# Altium integrated library Microchip Power Management Switching Regulator.IntLib: 304 symbols (part 2 of 9)
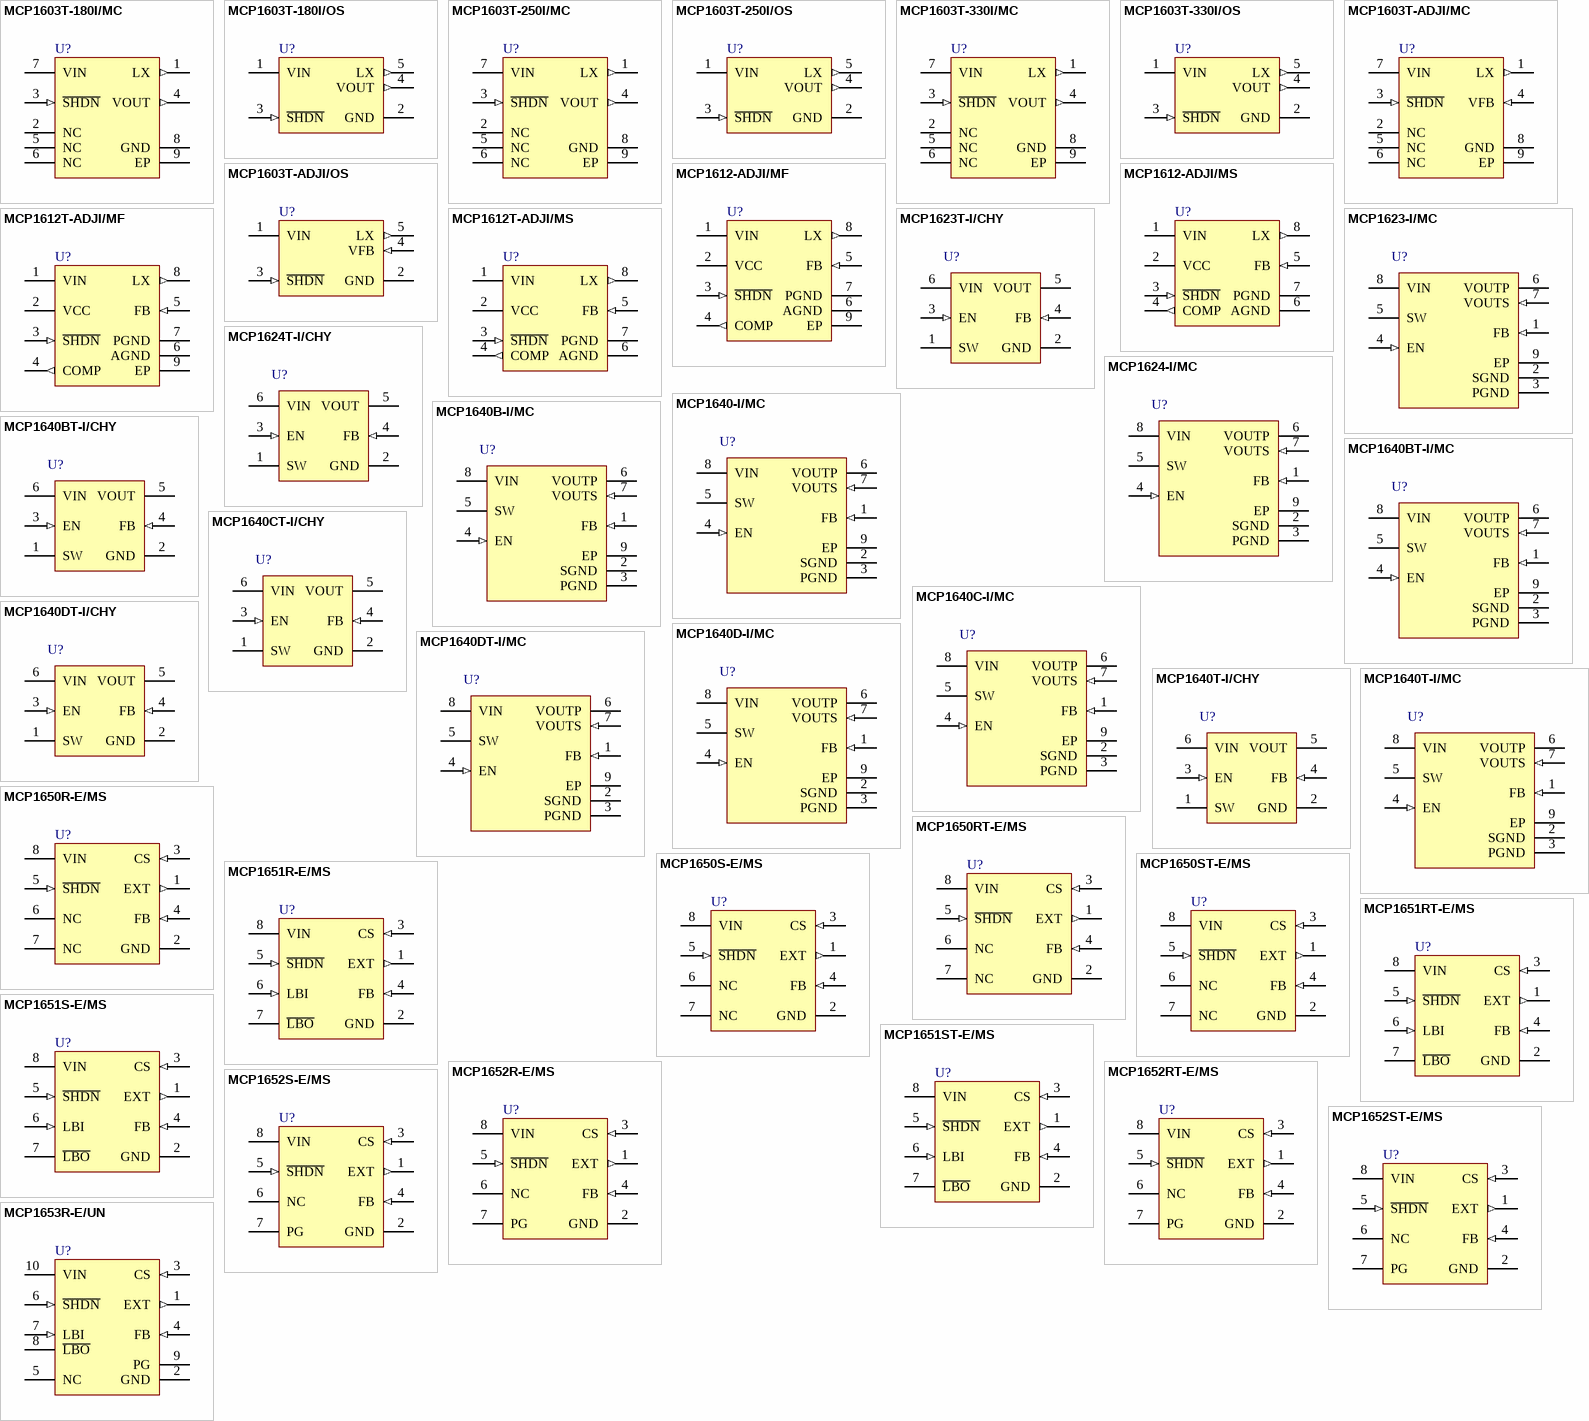
[diagram p8: symbols MCP1603T-180I/MC to MCP1653R-E/UN]

## MCP1603T-180I/OS
designator U?
500mA Synchronous Buck Regulator, 1.8V, 2.0 MHz, 5-Pin TSOT, Industrial Temperature, Tape and Reel; Manufacturer: Microchip; PartNumber: MCP1603T-180I/OS; DatasheetVersion: revA, May-2007; PackageVersion: revBB, Aug-2009; PackageReference: TSOT-OS5; PackageDescription: 5-Lead Plastic Small Outline Transistor (OS) [TSOT]; Supplier 1: Digi-Key; Supplier Part Number 1: MCP1603T-180I/OSTR-ND; Supplier 2: Digi-Key; Supplier Part Number 2: MCP1603T-180I/OSCT-ND; Supplier 3: Digi-Key; Supplier Part Number 3: MCP1603T-180I/OSDKR-ND; Supplier 4: Newark; Supplier Part Number 4: 22K1328; Supplier 5: Mouser; Supplier Part Number 5: 579-MCP1603T-180I/OS; Mounting Technology: Surface Mount; ComponentLink1Description: Manufacturer URL; ComponentLink1URL: http://www.microchip.com/; ComponentLink2Description: Datasheet; ComponentLink2URL: http://ww1.microchip.com/downloads/en/DeviceDoc/22042a.pdf; ComponentLink3Description: Package Specification; ComponentLink3URL: http://www.microchip.com/stellent/groups/techpub_sg/documents/packagingspec/en012702.pdf
footprint TSOT-OS5_N (SOT23, 5-Leads, Body 2.9x1.6mm, Pitch 0.95mm, Lead Span 2.8mm, IPC Medium Density)
footprint TSOT-OS5_L (SOT23, 5-Leads, Body 2.9x1.6mm, Pitch 0.95mm, Lead Span 2.8mm, IPC High Density)
footprint TSOT-OS5_M (SOT23, 5-Leads, Body 2.9x1.6mm, Pitch 0.95mm, Lead Span 2.8mm, IPC Low Density)
pins: 1 VIN (power), 2 GND (power), 3 ~{SHDN} (in), 4 VOUT (out), 5 LX (out)

## MCP1603T-250I/MC
designator U?
500mA Synchronous Buck Regulator, 2.5V, 2.0 MHz, 8-Pin DFN, Industrial Temperature, Tape and Reel; Manufacturer: Microchip; PartNumber: MCP1603T-250I/MC; DatasheetVersion: revA, May-2007; PackageVersion: revBB, Aug-2009; PackageReference: DFN-MC8; PackageDescription: 8-Lead Plastic Dual Flat, No Lead Package (MC) - 2x3x0.9mm Body [DFN]; Supplier 1: Digi-Key; Supplier Part Number 1: MCP1603T-250I/MC-ND; Supplier 2: Mouser; Supplier Part Number 2: 579-MCP1603T-250I/MC; Mounting Technology: Surface Mount; ComponentLink1Description: Manufacturer URL; ComponentLink1URL: http://www.microchip.com/; ComponentLink2Description: Datasheet; ComponentLink2URL: http://ww1.microchip.com/downloads/en/DeviceDoc/22042a.pdf; ComponentLink3Description: Package Specification; ComponentLink3URL: http://www.microchip.com/stellent/groups/techpub_sg/documents/packagingspec/en012702.pdf
footprint DFN-MC8 (SON, 8-Leads, Body 2x3mm, Pitch 0.5mm, Microchip Recommended)
pins: 1 LX (out), 2 NC, 3 ~{SHDN} (in), 4 VOUT (out), 5 NC, 6 NC, 7 VIN (power), 8 GND (power), 9 EP (power)

## MCP1603T-250I/OS
designator U?
500mA Synchronous Buck Regulator, 2.5V, 2.0 MHz, 5-Pin TSOT, Industrial Temperature, Tape and Reel; Manufacturer: Microchip; PartNumber: MCP1603T-250I/OS; DatasheetVersion: revA, May-2007; PackageVersion: revBB, Aug-2009; PackageReference: TSOT-OS5; PackageDescription: 5-Lead Plastic Small Outline Transistor (OS) [TSOT]; Supplier 1: Digi-Key; Supplier Part Number 1: MCP1603T-250I/OSTR-ND; Supplier 2: Digi-Key; Supplier Part Number 2: MCP1603T-250I/OSCT-ND; Supplier 3: Digi-Key; Supplier Part Number 3: MCP1603T-250I/OSDKR-ND; Supplier 4: Farnell; Supplier Part Number 4: 1834886; Supplier 5: Farnell; Supplier Part Number 5: 1834886RL; Supplier 6: Newark; Supplier Part Number 6: 84R5174; Supplier 7: Mouser; Supplier Part Number 7: 579-MCP1603T-250I/OS; Mounting Technology: Surface Mount; ComponentLink1Description: Manufacturer URL; ComponentLink1URL: http://www.microchip.com/; ComponentLink2Description: Datasheet; ComponentLink2URL: http://ww1.microchip.com/downloads/en/DeviceDoc/22042a.pdf; ComponentLink3Description: Package Specification; ComponentLink3URL: http://www.microchip.com/stellent/groups/techpub_sg/documents/packagingspec/en012702.pdf
footprint TSOT-OS5_N (SOT23, 5-Leads, Body 2.9x1.6mm, Pitch 0.95mm, Lead Span 2.8mm, IPC Medium Density)
footprint TSOT-OS5_L (SOT23, 5-Leads, Body 2.9x1.6mm, Pitch 0.95mm, Lead Span 2.8mm, IPC High Density)
footprint TSOT-OS5_M (SOT23, 5-Leads, Body 2.9x1.6mm, Pitch 0.95mm, Lead Span 2.8mm, IPC Low Density)
pins: 1 VIN (power), 2 GND (power), 3 ~{SHDN} (in), 4 VOUT (out), 5 LX (out)

## MCP1603T-330I/MC
designator U?
500mA Synchronous Buck Regulator, 3.3V, 2.0 MHz, 8-Pin DFN, Industrial Temperature, Tape and Reel; Manufacturer: Microchip; PartNumber: MCP1603T-330I/MC; DatasheetVersion: revA, May-2007; PackageVersion: revBB, Aug-2009; PackageReference: DFN-MC8; PackageDescription: 8-Lead Plastic Dual Flat, No Lead Package (MC) - 2x3x0.9mm Body [DFN]; Supplier 1: Digi-Key; Supplier Part Number 1: MCP1603T-330I/MC-ND; Supplier 2: Newark; Supplier Part Number 2: 22K1331; Supplier 3: Mouser; Supplier Part Number 3: 579-MCP1603T-330I/MC; Mounting Technology: Surface Mount; ComponentLink1Description: Manufacturer URL; ComponentLink1URL: http://www.microchip.com/; ComponentLink2Description: Datasheet; ComponentLink2URL: http://ww1.microchip.com/downloads/en/DeviceDoc/22042a.pdf; ComponentLink3Description: Package Specification; ComponentLink3URL: http://www.microchip.com/stellent/groups/techpub_sg/documents/packagingspec/en012702.pdf
footprint DFN-MC8 (SON, 8-Leads, Body 2x3mm, Pitch 0.5mm, Microchip Recommended)
pins: 1 LX (out), 2 NC, 3 ~{SHDN} (in), 4 VOUT (out), 5 NC, 6 NC, 7 VIN (power), 8 GND (power), 9 EP (power)

## MCP1603T-330I/OS
designator U?
500mA Synchronous Buck Regulator, 3.3V, 2.0 MHz, 5-Pin TSOT, Industrial Temperature, Tape and Reel; Manufacturer: Microchip; PartNumber: MCP1603T-330I/OS; DatasheetVersion: revA, May-2007; PackageVersion: revBB, Aug-2009; PackageReference: TSOT-OS5; PackageDescription: 5-Lead Plastic Small Outline Transistor (OS) [TSOT]; Supplier 1: Digi-Key; Supplier Part Number 1: MCP1603T-330I/OSTR-ND; Supplier 2: Digi-Key; Supplier Part Number 2: MCP1603T-330I/OSCT-ND; Supplier 3: Digi-Key; Supplier Part Number 3: MCP1603T-330I/OSDKR-ND; Supplier 4: Farnell; Supplier Part Number 4: 1439373RL; Supplier 5: Farnell; Supplier Part Number 5: 1439373; Supplier 6: Farnell; Supplier Part Number 6: 2124903; Supplier 7: Newark; Supplier Part Number 7: 22K1332; Supplier 8: Mouser; Supplier Part Number 8: 579-MCP1603T-330I/OS; Mounting Technology: Surface Mount; ComponentLink1Description: Manufacturer URL; ComponentLink1URL: http://www.microchip.com/; ComponentLink2Description: Datasheet; ComponentLink2URL: http://ww1.microchip.com/downloads/en/DeviceDoc/22042a.pdf; ComponentLink3Description: Package Specification; ComponentLink3URL: http://www.microchip.com/stellent/groups/techpub_sg/documents/packagingspec/en012702.pdf
footprint TSOT-OS5_N (SOT23, 5-Leads, Body 2.9x1.6mm, Pitch 0.95mm, Lead Span 2.8mm, IPC Medium Density)
footprint TSOT-OS5_L (SOT23, 5-Leads, Body 2.9x1.6mm, Pitch 0.95mm, Lead Span 2.8mm, IPC High Density)
footprint TSOT-OS5_M (SOT23, 5-Leads, Body 2.9x1.6mm, Pitch 0.95mm, Lead Span 2.8mm, IPC Low Density)
pins: 1 VIN (power), 2 GND (power), 3 ~{SHDN} (in), 4 VOUT (out), 5 LX (out)

## MCP1603T-ADJI/MC
designator U?
500mA Synchronous Buck Regulator, Adjustable Output, 2MHz, 8-Pin DFN, Industrial Temperature, Tape and Reel; Manufacturer: Microchip; PartNumber: MCP1603T-ADJI/MC; DatasheetVersion: revA, May-2007; PackageVersion: revBB, Aug-2009; PackageReference: DFN-MC8; PackageDescription: 8-Lead Plastic Dual Flat, No Lead Package (MC) - 2x3x0.9mm Body [DFN]; Mounting Technology: Surface Mount; ComponentLink1Description: Manufacturer URL; ComponentLink1URL: http://www.microchip.com/; ComponentLink2Description: Datasheet; ComponentLink2URL: http://ww1.microchip.com/downloads/en/DeviceDoc/22042a.pdf; ComponentLink3Description: Package Specification; ComponentLink3URL: http://www.microchip.com/stellent/groups/techpub_sg/documents/packagingspec/en012702.pdf
footprint DFN-MC8 (SON, 8-Leads, Body 2x3mm, Pitch 0.5mm, Microchip Recommended)
pins: 1 LX (out), 2 NC, 3 ~{SHDN} (in), 4 VFB (in), 5 NC, 6 NC, 7 VIN (power), 8 GND (power), 9 EP (power)

## MCP1603T-ADJI/OS
designator U?
500mA Synchronous Buck Regulator, Adjustable Output, 2MHz, 5-Pin TSOT, Industrial Temperature, Tape and Reel; Manufacturer: Microchip; PartNumber: MCP1603T-ADJI/OS; DatasheetVersion: revA, May-2007; PackageVersion: revBB, Aug-2009; PackageReference: TSOT-OS5; PackageDescription: 5-Lead Plastic Small Outline Transistor (OS) [TSOT]; Supplier 1: Digi-Key; Supplier Part Number 1: MCP1603T-ADJI/OSTR-ND; Supplier 2: Digi-Key; Supplier Part Number 2: MCP1603T-ADJI/OSCT-ND; Supplier 3: Digi-Key; Supplier Part Number 3: MCP1603T-ADJI/OSDKR-ND; Supplier 4: Newark; Supplier Part Number 4: 22K1320; Supplier 5: Mouser; Supplier Part Number 5: 579-MCP1603T-ADJI/OS; Mounting Technology: Surface Mount; ComponentLink1Description: Manufacturer URL; ComponentLink1URL: http://www.microchip.com/; ComponentLink2Description: Datasheet; ComponentLink2URL: http://ww1.microchip.com/downloads/en/DeviceDoc/22042a.pdf; ComponentLink3Description: Package Specification; ComponentLink3URL: http://www.microchip.com/stellent/groups/techpub_sg/documents/packagingspec/en012702.pdf
footprint TSOT-OS5_N (SOT23, 5-Leads, Body 2.9x1.6mm, Pitch 0.95mm, Lead Span 2.8mm, IPC Medium Density)
footprint TSOT-OS5_L (SOT23, 5-Leads, Body 2.9x1.6mm, Pitch 0.95mm, Lead Span 2.8mm, IPC High Density)
footprint TSOT-OS5_M (SOT23, 5-Leads, Body 2.9x1.6mm, Pitch 0.95mm, Lead Span 2.8mm, IPC Low Density)
pins: 1 VIN (power), 2 GND (power), 3 ~{SHDN} (in), 4 VFB (in), 5 LX (out)

## MCP1612-ADJI/MF
designator U?
Single 1A Synchronous Buck Regulator, 1.4MHz, 8-Pin DFN, Industrial Temperature; Manufacturer: Microchip; PartNumber: MCP1612-ADJI/MF; DatasheetVersion: revB, Sep-2005; PackageVersion: revBB, Aug-2009; PackageReference: DFN-MF8; PackageDescription: 8-Lead Plastic Dual Flat, No Lead Package (MF) - 3x3x0.9mm Body [DFN]; Supplier 1: Digi-Key; Supplier Part Number 1: MCP1612-ADJI/MF-ND; Supplier 2: Farnell; Supplier Part Number 2: 1851929; Supplier 3: Newark; Supplier Part Number 3: 71J5263; Supplier 4: Mouser; Supplier Part Number 4: 579-MCP1612-ADJI/MF; Mounting Technology: Surface Mount; ComponentLink1Description: Manufacturer URL; ComponentLink1URL: http://www.microchip.com/; ComponentLink2Description: Datasheet; ComponentLink2URL: http://ww1.microchip.com/downloads/en/DeviceDoc/21921b.pdf; ComponentLink3Description: Package Specification; ComponentLink3URL: http://www.microchip.com/stellent/groups/techpub_sg/documents/packagingspec/en012702.pdf
footprint DFN-MF8 (SON, 8-Leads, Body 3x3mm, Pitch 0.65mm, Microchip Recommended)
pins: 1 VIN (power), 2 VCC (power), 3 ~{SHDN} (in), 4 COMP (out), 5 FB (in), 6 AGND (power), 7 PGND (power), 8 LX (out), 9 EP (power)

## MCP1612-ADJI/MS
designator U?
Single 1A Synchronous Buck Regulator, 1.4MHz, 8-Pin MSOP, Industrial Temperature; Manufacturer: Microchip; PartNumber: MCP1612-ADJI/MS; DatasheetVersion: revB, Sep-2005; PackageVersion: revBB, Aug-2009; PackageReference: MSOP-MS8; PackageDescription: 8-Lead Plastic Micro Small Outline Package (MS) [MSOP]; Supplier 1: Digi-Key; Supplier Part Number 1: MCP1612-ADJI/MS-ND; Supplier 2: Farnell; Supplier Part Number 2: 8752915; Supplier 3: Newark; Supplier Part Number 3: 18K6597; Supplier 4: Newark; Supplier Part Number 4: 68K5101; Supplier 5: Mouser; Supplier Part Number 5: 579-MCP1612-ADJI/MS; Mounting Technology: Surface Mount; ComponentLink1Description: Manufacturer URL; ComponentLink1URL: http://www.microchip.com/; ComponentLink2Description: Datasheet; ComponentLink2URL: http://ww1.microchip.com/downloads/en/DeviceDoc/21921b.pdf; ComponentLink3Description: Package Specification; ComponentLink3URL: http://www.microchip.com/stellent/groups/techpub_sg/documents/packagingspec/en012702.pdf
footprint MSOP-MS8_N (TSOP, 8-Leads, Body 3x3mm, Pitch 0.65mm, IPC Medium Density)
footprint MSOP-MS8_L (TSOP, 8-Leads, Body 3x3mm, Pitch 0.65mm, IPC High Density)
footprint MSOP-MS8_M (TSOP, 8-Leads, Body 3x3mm, Pitch 0.65mm, IPC Low Density)
pins: 1 VIN (power), 2 VCC (power), 3 ~{SHDN} (in), 4 COMP (out), 5 FB (in), 6 AGND (power), 7 PGND (power), 8 LX (out)

## MCP1612T-ADJI/MF
designator U?
Single 1A Synchronous Buck Regulator, 1.4MHz, 8-Pin DFN, Industrial Temperature, Tape and Reel; Manufacturer: Microchip; PartNumber: MCP1612T-ADJI/MF; DatasheetVersion: revB, Sep-2005; PackageVersion: revBB, Aug-2009; PackageReference: DFN-MF8; PackageDescription: 8-Lead Plastic Dual Flat, No Lead Package (MF) - 3x3x0.9mm Body [DFN]; Supplier 1: Digi-Key; Supplier Part Number 1: MCP1612T-ADJI/MF-ND; Supplier 2: Mouser; Supplier Part Number 2: 579-MCP1612T-ADJI/MF; Mounting Technology: Surface Mount; ComponentLink1Description: Manufacturer URL; ComponentLink1URL: http://www.microchip.com/; ComponentLink2Description: Datasheet; ComponentLink2URL: http://ww1.microchip.com/downloads/en/DeviceDoc/21921b.pdf; ComponentLink3Description: Package Specification; ComponentLink3URL: http://www.microchip.com/stellent/groups/techpub_sg/documents/packagingspec/en012702.pdf
footprint DFN-MF8 (SON, 8-Leads, Body 3x3mm, Pitch 0.65mm, Microchip Recommended)
pins: 1 VIN (power), 2 VCC (power), 3 ~{SHDN} (in), 4 COMP (out), 5 FB (in), 6 AGND (power), 7 PGND (power), 8 LX (out), 9 EP (power)

## MCP1612T-ADJI/MS
designator U?
Single 1A Synchronous Buck Regulator, 1.4MHz, 8-Pin MSOP, Industrial Temperature, Tape and Reel; Manufacturer: Microchip; PartNumber: MCP1612T-ADJI/MS; DatasheetVersion: revB, Sep-2005; PackageVersion: revBB, Aug-2009; PackageReference: MSOP-MS8; PackageDescription: 8-Lead Plastic Micro Small Outline Package (MS) [MSOP]; Supplier 1: Digi-Key; Supplier Part Number 1: MCP1612T-ADJI/MS-ND; Supplier 2: Mouser; Supplier Part Number 2: 579-MCP1612T-ADJI/MS; Mounting Technology: Surface Mount; ComponentLink1Description: Manufacturer URL; ComponentLink1URL: http://www.microchip.com/; ComponentLink2Description: Datasheet; ComponentLink2URL: http://ww1.microchip.com/downloads/en/DeviceDoc/21921b.pdf; ComponentLink3Description: Package Specification; ComponentLink3URL: http://www.microchip.com/stellent/groups/techpub_sg/documents/packagingspec/en012702.pdf
footprint MSOP-MS8_N (TSOP, 8-Leads, Body 3x3mm, Pitch 0.65mm, IPC Medium Density)
footprint MSOP-MS8_L (TSOP, 8-Leads, Body 3x3mm, Pitch 0.65mm, IPC High Density)
footprint MSOP-MS8_M (TSOP, 8-Leads, Body 3x3mm, Pitch 0.65mm, IPC Low Density)
pins: 1 VIN (power), 2 VCC (power), 3 ~{SHDN} (in), 4 COMP (out), 5 FB (in), 6 AGND (power), 7 PGND (power), 8 LX (out)

## MCP1623-I/MC
designator U?
Low-Voltage Input Boost Regulator for PIC® Microcontrollers, 175 mA, Input Voltage 0.65 to 5.5 V, Output Voltage 2.0 to 5.5 V, -40 to 85 degC, 8-pin DFN (MC8), Tube; Manufacturer: Microchip; PartNumber: MCP1623-I/MC; DatasheetVersion: Rev. C; PackageVersion: C04-123C; PackageReference: DFN-MC8; PackageDescription: 8-Lead Plastic Dual Flat, 2 x 3 mm Body, 0.5 mm Pitch; Supplier 1: Digi-Key; Supplier Part Number 1: MCP1623-I/MC-ND; Supplier 2: Farnell; Supplier Part Number 2: 1863916; Supplier 3: Newark; Supplier Part Number 3: 85R1724; Supplier 4: Mouser; Supplier Part Number 4: 579-MCP1623IMC; Mounting Technology: Surface Mount; ComponentLink1Description: Manufacturer URL; ComponentLink1URL: http://www.microchip.com; ComponentLink2Description: Datasheet; ComponentLink2URL: http://ww1.microchip.com/downloads/en/DeviceDoc/41420C.pdf; ComponentLink3Description: Package Specification; ComponentLink3URL: http://www.microchip.com/stellent/groups/techpub_sg/documents/packagingspec/en012702.pdf; ComponentLink4Description: Product URL; ComponentLink4URL: http://www.microchip.com/MCP1623
footprint MCHP-DFN-MC8_V (SON, 8-Leads, Body 3x2mm, Pitch 0.5mm, Thermal Pad 1.45x1.75mm)
pins: 1 FB (in) "Feedback Voltage Pin", 2 SGND (power) "Signal Ground Pin", 3 PGND (power) "Power Ground Pin", 4 EN (in) "Enable Control Input Pin", 5 SW (power) "Switch Node, Boost Inductor Input Pin", 6 VOUTP (power) "Output Voltage Power Pin", 7 VOUTS (in) "Output Voltage Sense Pin", 8 VIN (power) "Input Voltage Pin", 9 EP (power) "Exposed Thermal Pad (EP); must be connected to VSS"

## MCP1623T-I/CHY
designator U?
Low-Voltage Input Boost Regulator for PIC® Microcontrollers, 175 mA, Input Voltage 0.65 to 5.5 V, Output Voltage 2.0 to 5.5 V, -40 to 85 degC, 6-pin SOT-23 (CHY6), Tape and Reel; Manufacturer: Microchip; PartNumber: MCP1623T-I/CHY; DatasheetVersion: Rev. C; PackageVersion: C04-028B; PackageReference: SOT-23-CHY6; PackageDescription: 6-Lead Plastic Small Outline Transistor, 2.9 x 1.55 mm Body, 0.95 mm Pitch; Supplier 1: Digi-Key; Supplier Part Number 1: MCP1623T-I/CHYTR-ND; Supplier 2: Digi-Key; Supplier Part Number 2: MCP1623T-I/CHYCT-ND; Supplier 3: Digi-Key; Supplier Part Number 3: MCP1623T-I/CHYDKR-ND; Supplier 4: Farnell; Supplier Part Number 4: 1863917; Supplier 5: Farnell; Supplier Part Number 5: 1863917RL; Supplier 6: Newark; Supplier Part Number 6: 76R6656; Supplier 7: Newark; Supplier Part Number 7: 31T1322; Supplier 8: Mouser; Supplier Part Number 8: 579-MCP1623T-I/CHY; Mounting Technology: Surface Mount; ComponentLink1Description: Manufacturer URL; ComponentLink1URL: http://www.microchip.com; ComponentLink2Description: Datasheet; ComponentLink2URL: http://ww1.microchip.com/downloads/en/DeviceDoc/41420C.pdf; ComponentLink3Description: Package Specification; ComponentLink3URL: http://www.microchip.com/stellent/groups/techpub_sg/documents/packagingspec/en012702.pdf; ComponentLink4Description: Product URL; ComponentLink4URL: http://www.microchip.com/MCP1623
footprint MCHP-SOT-23-CHY6_N (SOT23, 6-Leads, Body 2.9x1.55mm, Pitch 0.95mm, IPC Medium Density)
footprint MCHP-SOT-23-CHY6_L (SOT23, 6-Leads, Body 2.9x1.55mm, Pitch 0.95mm, IPC High Density)
footprint MCHP-SOT-23-CHY6_M (SOT23, 6-Leads, Body 2.9x1.55mm, Pitch 0.95mm, IPC Low Density)
pins: 1 SW (power) "Switch Node, Boost Inductor Input Pin", 2 GND (power) "Ground Pin", 3 EN (in) "Enable Control Input Pin", 4 FB (in) "Feedback Voltage Pin", 5 VOUT (power) "Output Voltage Pin", 6 VIN (power) "Input Voltage Pin"

## MCP1624-I/MC
designator U?
Low-Voltage Input Boost Regulator for PIC® Microcontrollers, 175 mA, Input Voltage 0.65 to 5.5 V, Output Voltage 2.0 to 5.5 V, -40 to 85 degC, 8-pin DFN (MC8), Tube; Manufacturer: Microchip; PartNumber: MCP1624-I/MC; DatasheetVersion: Rev. C; PackageVersion: C04-123C; PackageReference: DFN-MC8; PackageDescription: 8-Lead Plastic Dual Flat, 2 x 3 mm Body, 0.5 mm Pitch; Supplier 1: Digi-Key; Supplier Part Number 1: MCP1624-I/MC-ND; Supplier 2: Farnell; Supplier Part Number 2: 1863918; Supplier 3: Newark; Supplier Part Number 3: 85R1726; Supplier 4: Mouser; Supplier Part Number 4: 579-MCP1624IMC; Mounting Technology: Surface Mount; ComponentLink1Description: Manufacturer URL; ComponentLink1URL: http://www.microchip.com; ComponentLink2Description: Datasheet; ComponentLink2URL: http://ww1.microchip.com/downloads/en/DeviceDoc/41420C.pdf; ComponentLink3Description: Package Specification; ComponentLink3URL: http://www.microchip.com/stellent/groups/techpub_sg/documents/packagingspec/en012702.pdf; ComponentLink4Description: Product URL; ComponentLink4URL: http://www.microchip.com/MCP1624
footprint MCHP-DFN-MC8_V (SON, 8-Leads, Body 3x2mm, Pitch 0.5mm, Thermal Pad 1.45x1.75mm)
pins: 1 FB (in) "Feedback Voltage Pin", 2 SGND (power) "Signal Ground Pin", 3 PGND (power) "Power Ground Pin", 4 EN (in) "Enable Control Input Pin", 5 SW (power) "Switch Node, Boost Inductor Input Pin", 6 VOUTP (power) "Output Voltage Power Pin", 7 VOUTS (in) "Output Voltage Sense Pin", 8 VIN (power) "Input Voltage Pin", 9 EP (power) "Exposed Thermal Pad (EP); must be connected to VSS"

## MCP1624T-I/CHY
designator U?
Low-Voltage Input Boost Regulator for PIC® Microcontrollers, 175 mA, Input Voltage 0.65 to 5.5 V, Output Voltage 2.0 to 5.5 V, -40 to 85 degC, 6-pin SOT-23 (CHY6), Tape and Reel; Manufacturer: Microchip; PartNumber: MCP1624T-I/CHY; DatasheetVersion: Rev. C; PackageVersion: C04-028B; PackageReference: SOT-23-CHY6; PackageDescription: 6-Lead Plastic Small Outline Transistor, 2.9 x 1.55 mm Body, 0.95 mm Pitch; Supplier 1: Digi-Key; Supplier Part Number 1: MCP1624T-I/CHYTR-ND; Supplier 2: Digi-Key; Supplier Part Number 2: MCP1624T-I/CHYCT-ND; Supplier 3: Digi-Key; Supplier Part Number 3: MCP1624T-I/CHYDKR-ND; Supplier 4: Farnell; Supplier Part Number 4: 1825048RL; Supplier 5: Farnell; Supplier Part Number 5: 1825048; Supplier 6: Newark; Supplier Part Number 6: 14T4084; Supplier 7: Newark; Supplier Part Number 7: 73R8371; Supplier 8: Mouser; Supplier Part Number 8: 579-MCP1624T-I/CHY; Mounting Technology: Surface Mount; ComponentLink1Description: Manufacturer URL; ComponentLink1URL: http://www.microchip.com; ComponentLink2Description: Datasheet; ComponentLink2URL: http://ww1.microchip.com/downloads/en/DeviceDoc/41420C.pdf; ComponentLink3Description: Package Specification; ComponentLink3URL: http://www.microchip.com/stellent/groups/techpub_sg/documents/packagingspec/en012702.pdf; ComponentLink4Description: Product URL; ComponentLink4URL: http://www.microchip.com/MCP1624
footprint MCHP-SOT-23-CHY6_N (SOT23, 6-Leads, Body 2.9x1.55mm, Pitch 0.95mm, IPC Medium Density)
footprint MCHP-SOT-23-CHY6_L (SOT23, 6-Leads, Body 2.9x1.55mm, Pitch 0.95mm, IPC High Density)
footprint MCHP-SOT-23-CHY6_M (SOT23, 6-Leads, Body 2.9x1.55mm, Pitch 0.95mm, IPC Low Density)
pins: 1 SW (power) "Switch Node, Boost Inductor Input Pin", 2 GND (power) "Ground Pin", 3 EN (in) "Enable Control Input Pin", 4 FB (in) "Feedback Voltage Pin", 5 VOUT (power) "Output Voltage Pin", 6 VIN (power) "Input Voltage Pin"

## MCP1640-I/MC
designator U?
Start-up Synchronous Boost Regulator with True Output Disconnect or Input / Output Bypass Option, 350 mA, Input Voltage 0.65 to 5.5 V, Output Voltage 2.0 to 5.5 V, -40 to 85 degC, 8-pin DFN (MC8), Tube; Manufacturer: Microchip; PartNumber: MCP1640-I/MC; DatasheetVersion: Rev. B; PackageVersion: C04-123C; PackageReference: DFN-MC8; PackageDescription: 8-Lead Plastic Dual Flat, 2 x 3 mm Body, 0.5 mm Pitch; Supplier 1: Digi-Key; Supplier Part Number 1: MCP1640-I/MC-ND; Supplier 2: Farnell; Supplier Part Number 2: 1834887; Supplier 3: Newark; Supplier Part Number 3: 52R9885; Supplier 4: Mouser; Supplier Part Number 4: 579-MCP1640I/MC; Mounting Technology: Surface Mount; ComponentLink1Description: Manufacturer URL; ComponentLink1URL: http://www.microchip.com; ComponentLink2Description: Datasheet; ComponentLink2URL: http://ww1.microchip.com/downloads/en/DeviceDoc/22234B.pdf; ComponentLink3Description: Package Specification; ComponentLink3URL: http://www.microchip.com/stellent/groups/techpub_sg/documents/packagingspec/en012702.pdf; ComponentLink4Description: Product URL; ComponentLink4URL: http://www.microchip.com/MCP1640
footprint MCHP-DFN-MC8_V (SON, 8-Leads, Body 3x2mm, Pitch 0.5mm, Thermal Pad 1.45x1.75mm)
pins: 1 FB (in) "Feedback Voltage Pin", 2 SGND (power) "Signal Ground Pin", 3 PGND (power) "Power Ground Pin", 4 EN (in) "Enable Control Input Pin", 5 SW (power) "Switch Node, Boost Inductor Input Pin", 6 VOUTP (power) "Output Voltage Power Pin", 7 VOUTS (in) "Output Voltage Sense Pin", 8 VIN (power) "Input Voltage Pin", 9 EP (power) "Exposed Thermal Pad (EP); must be connected to VSS"

## MCP1640B-I/MC
designator U?
Start-up Synchronous Boost Regulator with True Output Disconnect or Input / Output Bypass Option, 350 mA, Input Voltage 0.65 to 5.5 V, Output Voltage 2.0 to 5.5 V, -40 to 85 degC, 8-pin DFN (MC8), Tube; Manufacturer: Microchip; PartNumber: MCP1640B-I/MC; DatasheetVersion: Rev. B; PackageVersion: C04-123C; PackageReference: DFN-MC8; PackageDescription: 8-Lead Plastic Dual Flat, 2 x 3 mm Body, 0.5 mm Pitch; Supplier 1: Digi-Key; Supplier Part Number 1: MCP1640B-I/MC-ND; Supplier 2: Farnell; Supplier Part Number 2: 1834888; Supplier 3: Newark; Supplier Part Number 3: 24R6819; Supplier 4: Mouser; Supplier Part Number 4: 579-MCP1640B-I/MC; Mounting Technology: Surface Mount; ComponentLink1Description: Manufacturer URL; ComponentLink1URL: http://www.microchip.com; ComponentLink2Description: Datasheet; ComponentLink2URL: http://ww1.microchip.com/downloads/en/DeviceDoc/22234B.pdf; ComponentLink3Description: Package Specification; ComponentLink3URL: http://www.microchip.com/stellent/groups/techpub_sg/documents/packagingspec/en012702.pdf; ComponentLink4Description: Product URL; ComponentLink4URL: http://www.microchip.com/MCP1640
footprint MCHP-DFN-MC8_V (SON, 8-Leads, Body 3x2mm, Pitch 0.5mm, Thermal Pad 1.45x1.75mm)
pins: 1 FB (in) "Feedback Voltage Pin", 2 SGND (power) "Signal Ground Pin", 3 PGND (power) "Power Ground Pin", 4 EN (in) "Enable Control Input Pin", 5 SW (power) "Switch Node, Boost Inductor Input Pin", 6 VOUTP (power) "Output Voltage Power Pin", 7 VOUTS (in) "Output Voltage Sense Pin", 8 VIN (power) "Input Voltage Pin", 9 EP (power) "Exposed Thermal Pad (EP); must be connected to VSS"

## MCP1640BT-I/CHY
designator U?
Start-up Synchronous Boost Regulator with True Output Disconnect or Input / Output Bypass Option, 350 mA, Input Voltage 0.65 to 5.5 V, Output Voltage 2.0 to 5.5 V, -40 to 85 degC, 6-pin SOT-23 (CHY6), Tape and Reel; Manufacturer: Microchip; PartNumber: MCP1640BT-I/CHY; DatasheetVersion: Rev. B; PackageVersion: C04-028B; PackageReference: SOT-23-CHY6; PackageDescription: 6-Lead Plastic Small Outline Transistor, 2.9 x 1.55 mm Body, 0.95 mm Pitch; Supplier 1: Digi-Key; Supplier Part Number 1: MCP1640BT-I/CHYTR-ND; Supplier 2: Digi-Key; Supplier Part Number 2: MCP1640BT-I/CHYCT-ND; Supplier 3: Digi-Key; Supplier Part Number 3: MCP1640BT-I/CHYDKR-ND; Supplier 4: Farnell; Supplier Part Number 4: 1800207; Supplier 5: Newark; Supplier Part Number 5: 73R3625; Supplier 6: Newark; Supplier Part Number 6: 24R6820; Supplier 7: Mouser; Supplier Part Number 7: 579-MCP1640BT-I/CHY; Mounting Technology: Surface Mount; ComponentLink1Description: Manufacturer URL; ComponentLink1URL: http://www.microchip.com; ComponentLink2Description: Datasheet; ComponentLink2URL: http://ww1.microchip.com/downloads/en/DeviceDoc/22234B.pdf; ComponentLink3Description: Package Specification; ComponentLink3URL: http://www.microchip.com/stellent/groups/techpub_sg/documents/packagingspec/en012702.pdf; ComponentLink4Description: Product URL; ComponentLink4URL: http://www.microchip.com/MCP1640
footprint MCHP-SOT-23-CHY6_N (SOT23, 6-Leads, Body 2.9x1.55mm, Pitch 0.95mm, IPC Medium Density)
footprint MCHP-SOT-23-CHY6_L (SOT23, 6-Leads, Body 2.9x1.55mm, Pitch 0.95mm, IPC High Density)
footprint MCHP-SOT-23-CHY6_M (SOT23, 6-Leads, Body 2.9x1.55mm, Pitch 0.95mm, IPC Low Density)
pins: 1 SW (power) "Switch Node, Boost Inductor Input Pin", 2 GND (power) "Ground Pin", 3 EN (in) "Enable Control Input Pin", 4 FB (in) "Feedback Voltage Pin", 5 VOUT (power) "Output Voltage Pin", 6 VIN (power) "Input Voltage Pin"

## MCP1640BT-I/MC
designator U?
Start-up Synchronous Boost Regulator with True Output Disconnect or Input / Output Bypass Option, 350 mA, Input Voltage 0.65 to 5.5 V, Output Voltage 2.0 to 5.5 V, -40 to 85 degC, 8-pin DFN (MC8), Tape and Reel; Manufacturer: Microchip; PartNumber: MCP1640BT-I/MC; DatasheetVersion: Rev. B; PackageVersion: C04-123C; PackageReference: DFN-MC8; PackageDescription: 8-Lead Plastic Dual Flat, 2 x 3 mm Body, 0.5 mm Pitch; Supplier 1: Digi-Key; Supplier Part Number 1: MCP1640BT-I/MC-ND; Supplier 2: Mouser; Supplier Part Number 2: 579-MCP1640BT-I/MC; Mounting Technology: Surface Mount; ComponentLink1Description: Manufacturer URL; ComponentLink1URL: http://www.microchip.com; ComponentLink2Description: Datasheet; ComponentLink2URL: http://ww1.microchip.com/downloads/en/DeviceDoc/22234B.pdf; ComponentLink3Description: Package Specification; ComponentLink3URL: http://www.microchip.com/stellent/groups/techpub_sg/documents/packagingspec/en012702.pdf; ComponentLink4Description: Product URL; ComponentLink4URL: http://www.microchip.com/MCP1640
footprint MCHP-DFN-MC8_V (SON, 8-Leads, Body 3x2mm, Pitch 0.5mm, Thermal Pad 1.45x1.75mm)
pins: 1 FB (in) "Feedback Voltage Pin", 2 SGND (power) "Signal Ground Pin", 3 PGND (power) "Power Ground Pin", 4 EN (in) "Enable Control Input Pin", 5 SW (power) "Switch Node, Boost Inductor Input Pin", 6 VOUTP (power) "Output Voltage Power Pin", 7 VOUTS (in) "Output Voltage Sense Pin", 8 VIN (power) "Input Voltage Pin", 9 EP (power) "Exposed Thermal Pad (EP); must be connected to VSS"

## MCP1640C-I/MC
designator U?
Start-up Synchronous Boost Regulator with True Output Disconnect or Input / Output Bypass Option, 350 mA, Input Voltage 0.65 to 5.5 V, Output Voltage 2.0 to 5.5 V, -40 to 85 degC, 8-pin DFN (MC8), Tube; Manufacturer: Microchip; PartNumber: MCP1640C-I/MC; DatasheetVersion: Rev. B; PackageVersion: C04-123C; PackageReference: DFN-MC8; PackageDescription: 8-Lead Plastic Dual Flat, 2 x 3 mm Body, 0.5 mm Pitch; Supplier 1: Digi-Key; Supplier Part Number 1: MCP1640C-I/MC-ND; Supplier 2: Farnell; Supplier Part Number 2: 1840936; Supplier 3: Newark; Supplier Part Number 3: 24R6822; Supplier 4: Mouser; Supplier Part Number 4: 579-MCP1640C-I/MC; Mounting Technology: Surface Mount; ComponentLink1Description: Manufacturer URL; ComponentLink1URL: http://www.microchip.com; ComponentLink2Description: Datasheet; ComponentLink2URL: http://ww1.microchip.com/downloads/en/DeviceDoc/22234B.pdf; ComponentLink3Description: Package Specification; ComponentLink3URL: http://www.microchip.com/stellent/groups/techpub_sg/documents/packagingspec/en012702.pdf; ComponentLink4Description: Product URL; ComponentLink4URL: http://www.microchip.com/MCP1640
footprint MCHP-DFN-MC8_V (SON, 8-Leads, Body 3x2mm, Pitch 0.5mm, Thermal Pad 1.45x1.75mm)
pins: 1 FB (in) "Feedback Voltage Pin", 2 SGND (power) "Signal Ground Pin", 3 PGND (power) "Power Ground Pin", 4 EN (in) "Enable Control Input Pin", 5 SW (power) "Switch Node, Boost Inductor Input Pin", 6 VOUTP (power) "Output Voltage Power Pin", 7 VOUTS (in) "Output Voltage Sense Pin", 8 VIN (power) "Input Voltage Pin", 9 EP (power) "Exposed Thermal Pad (EP); must be connected to VSS"

## MCP1640CT-I/CHY
designator U?
Start-up Synchronous Boost Regulator with True Output Disconnect or Input / Output Bypass Option, 350 mA, Input Voltage 0.65 to 5.5 V, Output Voltage 2.0 to 5.5 V, -40 to 85 degC, 6-pin SOT-23 (CHY6), Tape and Reel; Manufacturer: Microchip; PartNumber: MCP1640CT-I/CHY; DatasheetVersion: Rev. B; PackageVersion: C04-028B; PackageReference: SOT-23-CHY6; PackageDescription: 6-Lead Plastic Small Outline Transistor, 2.9 x 1.55 mm Body, 0.95 mm Pitch; Supplier 1: Digi-Key; Supplier Part Number 1: MCP1640CT-I/CHYTR-ND; Supplier 2: Digi-Key; Supplier Part Number 2: MCP1640CT-I/CHYCT-ND; Supplier 3: Digi-Key; Supplier Part Number 3: MCP1640CT-I/CHYDKR-ND; Supplier 4: Farnell; Supplier Part Number 4: 1800208; Supplier 5: Newark; Supplier Part Number 5: 73R3626; Supplier 6: Mouser; Supplier Part Number 6: 579-MCP1640CT-I/CHY; Mounting Technology: Surface Mount; ComponentLink1Description: Manufacturer URL; ComponentLink1URL: http://www.microchip.com; ComponentLink2Description: Datasheet; ComponentLink2URL: http://ww1.microchip.com/downloads/en/DeviceDoc/22234B.pdf; ComponentLink3Description: Package Specification; ComponentLink3URL: http://www.microchip.com/stellent/groups/techpub_sg/documents/packagingspec/en012702.pdf; ComponentLink4Description: Product URL; ComponentLink4URL: http://www.microchip.com/MCP1640
footprint MCHP-SOT-23-CHY6_N (SOT23, 6-Leads, Body 2.9x1.55mm, Pitch 0.95mm, IPC Medium Density)
footprint MCHP-SOT-23-CHY6_L (SOT23, 6-Leads, Body 2.9x1.55mm, Pitch 0.95mm, IPC High Density)
footprint MCHP-SOT-23-CHY6_M (SOT23, 6-Leads, Body 2.9x1.55mm, Pitch 0.95mm, IPC Low Density)
pins: 1 SW (power) "Switch Node, Boost Inductor Input Pin", 2 GND (power) "Ground Pin", 3 EN (in) "Enable Control Input Pin", 4 FB (in) "Feedback Voltage Pin", 5 VOUT (power) "Output Voltage Pin", 6 VIN (power) "Input Voltage Pin"

## MCP1640D-I/MC
designator U?
Start-up Synchronous Boost Regulator with True Output Disconnect or Input / Output Bypass Option, 350 mA, Input Voltage 0.65 to 5.5 V, Output Voltage 2.0 to 5.5 V, -40 to 85 degC, 8-pin DFN (MC8), Tube; Manufacturer: Microchip; PartNumber: MCP1640D-I/MC; DatasheetVersion: Rev. B; PackageVersion: C04-123C; PackageReference: DFN-MC8; PackageDescription: 8-Lead Plastic Dual Flat, 2 x 3 mm Body, 0.5 mm Pitch; Supplier 1: Digi-Key; Supplier Part Number 1: MCP1640D-I/MC-ND; Supplier 2: Farnell; Supplier Part Number 2: 1834889; Supplier 3: Newark; Supplier Part Number 3: 24R6825; Supplier 4: Mouser; Supplier Part Number 4: 579-MCP1640D-I/MC; Mounting Technology: Surface Mount; ComponentLink1Description: Manufacturer URL; ComponentLink1URL: http://www.microchip.com; ComponentLink2Description: Datasheet; ComponentLink2URL: http://ww1.microchip.com/downloads/en/DeviceDoc/22234B.pdf; ComponentLink3Description: Package Specification; ComponentLink3URL: http://www.microchip.com/stellent/groups/techpub_sg/documents/packagingspec/en012702.pdf; ComponentLink4Description: Product URL; ComponentLink4URL: http://www.microchip.com/MCP1640
footprint MCHP-DFN-MC8_V (SON, 8-Leads, Body 3x2mm, Pitch 0.5mm, Thermal Pad 1.45x1.75mm)
pins: 1 FB (in) "Feedback Voltage Pin", 2 SGND (power) "Signal Ground Pin", 3 PGND (power) "Power Ground Pin", 4 EN (in) "Enable Control Input Pin", 5 SW (power) "Switch Node, Boost Inductor Input Pin", 6 VOUTP (power) "Output Voltage Power Pin", 7 VOUTS (in) "Output Voltage Sense Pin", 8 VIN (power) "Input Voltage Pin", 9 EP (power) "Exposed Thermal Pad (EP); must be connected to VSS"

## MCP1640DT-I/CHY
designator U?
Start-up Synchronous Boost Regulator with True Output Disconnect or Input / Output Bypass Option, 350 mA, Input Voltage 0.65 to 5.5 V, Output Voltage 2.0 to 5.5 V, -40 to 85 degC, 6-pin SOT-23 (CHY6), Tape and Reel; Manufacturer: Microchip; PartNumber: MCP1640DT-I/CHY; DatasheetVersion: Rev. B; PackageVersion: C04-028B; PackageReference: SOT-23-CHY6; PackageDescription: 6-Lead Plastic Small Outline Transistor, 2.9 x 1.55 mm Body, 0.95 mm Pitch; Supplier 1: Digi-Key; Supplier Part Number 1: MCP1640DT-I/CHYTR-ND; Supplier 2: Digi-Key; Supplier Part Number 2: MCP1640DT-I/CHYCT-ND; Supplier 3: Digi-Key; Supplier Part Number 3: MCP1640DT-I/CHYDKR-ND; Supplier 4: Farnell; Supplier Part Number 4: 1800209; Supplier 5: Newark; Supplier Part Number 5: 73R3627; Supplier 6: Mouser; Supplier Part Number 6: 579-MCP1640DT-I/CHY; Mounting Technology: Surface Mount; ComponentLink1Description: Manufacturer URL; ComponentLink1URL: http://www.microchip.com; ComponentLink2Description: Datasheet; ComponentLink2URL: http://ww1.microchip.com/downloads/en/DeviceDoc/22234B.pdf; ComponentLink3Description: Package Specification; ComponentLink3URL: http://www.microchip.com/stellent/groups/techpub_sg/documents/packagingspec/en012702.pdf; ComponentLink4Description: Product URL; ComponentLink4URL: http://www.microchip.com/MCP1640
footprint MCHP-SOT-23-CHY6_N (SOT23, 6-Leads, Body 2.9x1.55mm, Pitch 0.95mm, IPC Medium Density)
footprint MCHP-SOT-23-CHY6_L (SOT23, 6-Leads, Body 2.9x1.55mm, Pitch 0.95mm, IPC High Density)
footprint MCHP-SOT-23-CHY6_M (SOT23, 6-Leads, Body 2.9x1.55mm, Pitch 0.95mm, IPC Low Density)
pins: 1 SW (power) "Switch Node, Boost Inductor Input Pin", 2 GND (power) "Ground Pin", 3 EN (in) "Enable Control Input Pin", 4 FB (in) "Feedback Voltage Pin", 5 VOUT (power) "Output Voltage Pin", 6 VIN (power) "Input Voltage Pin"

## MCP1640DT-I/MC
designator U?
Start-up Synchronous Boost Regulator with True Output Disconnect or Input / Output Bypass Option, 350 mA, Input Voltage 0.65 to 5.5 V, Output Voltage 2.0 to 5.5 V, -40 to 85 degC, 8-pin DFN (MC8), Tape and Reel; Manufacturer: Microchip; PartNumber: MCP1640DT-I/MC; DatasheetVersion: Rev. B; PackageVersion: C04-123C; PackageReference: DFN-MC8; PackageDescription: 8-Lead Plastic Dual Flat, 2 x 3 mm Body, 0.5 mm Pitch; Supplier 1: Digi-Key; Supplier Part Number 1: MCP1640DT-I/MC-ND; Supplier 2: Mouser; Supplier Part Number 2: 579-MCP1640DT-I/MC; Mounting Technology: Surface Mount; ComponentLink1Description: Manufacturer URL; ComponentLink1URL: http://www.microchip.com; ComponentLink2Description: Datasheet; ComponentLink2URL: http://ww1.microchip.com/downloads/en/DeviceDoc/22234B.pdf; ComponentLink3Description: Package Specification; ComponentLink3URL: http://www.microchip.com/stellent/groups/techpub_sg/documents/packagingspec/en012702.pdf; ComponentLink4Description: Product URL; ComponentLink4URL: http://www.microchip.com/MCP1640
footprint MCHP-DFN-MC8_V (SON, 8-Leads, Body 3x2mm, Pitch 0.5mm, Thermal Pad 1.45x1.75mm)
pins: 1 FB (in) "Feedback Voltage Pin", 2 SGND (power) "Signal Ground Pin", 3 PGND (power) "Power Ground Pin", 4 EN (in) "Enable Control Input Pin", 5 SW (power) "Switch Node, Boost Inductor Input Pin", 6 VOUTP (power) "Output Voltage Power Pin", 7 VOUTS (in) "Output Voltage Sense Pin", 8 VIN (power) "Input Voltage Pin", 9 EP (power) "Exposed Thermal Pad (EP); must be connected to VSS"

## MCP1640T-I/CHY
designator U?
Start-up Synchronous Boost Regulator with True Output Disconnect or Input / Output Bypass Option, 350 mA, Input Voltage 0.65 to 5.5 V, Output Voltage 2.0 to 5.5 V, -40 to 85 degC, 6-pin SOT-23 (CHY6), Tape and Reel; Manufacturer: Microchip; PartNumber: MCP1640T-I/CHY; DatasheetVersion: Rev. B; PackageVersion: C04-028B; PackageReference: SOT-23-CHY6; PackageDescription: 6-Lead Plastic Small Outline Transistor, 2.9 x 1.55 mm Body, 0.95 mm Pitch; Supplier 1: Digi-Key; Supplier Part Number 1: MCP1640T-I/CHYTR-ND; Supplier 2: Digi-Key; Supplier Part Number 2: MCP1640T-I/CHYCT-ND; Supplier 3: Digi-Key; Supplier Part Number 3: MCP1640T-I/CHYDKR-ND; Supplier 4: Farnell; Supplier Part Number 4: 1800205; Supplier 5: Newark; Supplier Part Number 5: 73R3628; Supplier 6: Mouser; Supplier Part Number 6: 579-MCP1640TI/CHY; Mounting Technology: Surface Mount; ComponentLink1Description: Manufacturer URL; ComponentLink1URL: http://www.microchip.com; ComponentLink2Description: Datasheet; ComponentLink2URL: http://ww1.microchip.com/downloads/en/DeviceDoc/22234B.pdf; ComponentLink3Description: Package Specification; ComponentLink3URL: http://www.microchip.com/stellent/groups/techpub_sg/documents/packagingspec/en012702.pdf; ComponentLink4Description: Product URL; ComponentLink4URL: http://www.microchip.com/MCP1640
footprint MCHP-SOT-23-CHY6_N (SOT23, 6-Leads, Body 2.9x1.55mm, Pitch 0.95mm, IPC Medium Density)
footprint MCHP-SOT-23-CHY6_L (SOT23, 6-Leads, Body 2.9x1.55mm, Pitch 0.95mm, IPC High Density)
footprint MCHP-SOT-23-CHY6_M (SOT23, 6-Leads, Body 2.9x1.55mm, Pitch 0.95mm, IPC Low Density)
pins: 1 SW (power) "Switch Node, Boost Inductor Input Pin", 2 GND (power) "Ground Pin", 3 EN (in) "Enable Control Input Pin", 4 FB (in) "Feedback Voltage Pin", 5 VOUT (power) "Output Voltage Pin", 6 VIN (power) "Input Voltage Pin"

## MCP1640T-I/MC
designator U?
Start-up Synchronous Boost Regulator with True Output Disconnect or Input / Output Bypass Option, 350 mA, Input Voltage 0.65 to 5.5 V, Output Voltage 2.0 to 5.5 V, -40 to 85 degC, 8-pin DFN (MC8), Tape and Reel; Manufacturer: Microchip; PartNumber: MCP1640T-I/MC; DatasheetVersion: Rev. B; PackageVersion: C04-123C; PackageReference: DFN-MC8; PackageDescription: 8-Lead Plastic Dual Flat, 2 x 3 mm Body, 0.5 mm Pitch; Supplier 1: Digi-Key; Supplier Part Number 1: MCP1640T-I/MC-ND; Supplier 2: Mouser; Supplier Part Number 2: 579-MCP1640TI/MC; Mounting Technology: Surface Mount; ComponentLink1Description: Manufacturer URL; ComponentLink1URL: http://www.microchip.com; ComponentLink2Description: Datasheet; ComponentLink2URL: http://ww1.microchip.com/downloads/en/DeviceDoc/22234B.pdf; ComponentLink3Description: Package Specification; ComponentLink3URL: http://www.microchip.com/stellent/groups/techpub_sg/documents/packagingspec/en012702.pdf; ComponentLink4Description: Product URL; ComponentLink4URL: http://www.microchip.com/MCP1640
footprint MCHP-DFN-MC8_V (SON, 8-Leads, Body 3x2mm, Pitch 0.5mm, Thermal Pad 1.45x1.75mm)
pins: 1 FB (in) "Feedback Voltage Pin", 2 SGND (power) "Signal Ground Pin", 3 PGND (power) "Power Ground Pin", 4 EN (in) "Enable Control Input Pin", 5 SW (power) "Switch Node, Boost Inductor Input Pin", 6 VOUTP (power) "Output Voltage Power Pin", 7 VOUTS (in) "Output Voltage Sense Pin", 8 VIN (power) "Input Voltage Pin", 9 EP (power) "Exposed Thermal Pad (EP); must be connected to VSS"

## MCP1650R-E/MS
designator U?
750 kHz Boost Controller, 2.0V, 8-Pin MSOP, Extended Temperature; Manufacturer: Microchip; PartNumber: MCP1650R-E/MS; DatasheetVersion: revA, Mar-2004; PackageVersion: revBB, Aug-2009; PackageReference: MSOP-MS8; PackageDescription: 8-Lead Plastic Micro Small Outline Package (MS) [MSOP]; Supplier 1: Digi-Key; Supplier Part Number 1: MCP1650R-E/MS-ND; Supplier 2: Farnell; Supplier Part Number 2: 1439375; Supplier 3: Newark; Supplier Part Number 3: 96K3706; Supplier 4: Mouser; Supplier Part Number 4: 579-MCP1650R-E/MS; Mounting Technology: Surface Mount; ComponentLink1Description: Manufacturer URL; ComponentLink1URL: http://www.microchip.com/; ComponentLink2Description: Datasheet; ComponentLink2URL: http://ww1.microchip.com/downloads/en/DeviceDoc/21876a.pdf; ComponentLink3Description: Package Specification; ComponentLink3URL: http://www.microchip.com/stellent/groups/techpub_sg/documents/packagingspec/en012702.pdf
footprint MSOP-MS8_N (TSOP, 8-Leads, Body 3x3mm, Pitch 0.65mm, IPC Medium Density)
footprint MSOP-MS8_L (TSOP, 8-Leads, Body 3x3mm, Pitch 0.65mm, IPC High Density)
footprint MSOP-MS8_M (TSOP, 8-Leads, Body 3x3mm, Pitch 0.65mm, IPC Low Density)
pins: 1 EXT (out), 2 GND (power), 3 CS (in), 4 FB (in), 5 ~{SHDN} (in), 6 NC, 7 NC, 8 VIN (power)

## MCP1650RT-E/MS
designator U?
750 kHz Boost Controller, 2.0V, 8-Pin MSOP, Extended Temperature, Tape and Reel; Manufacturer: Microchip; PartNumber: MCP1650RT-E/MS; DatasheetVersion: revA, Mar-2004; PackageVersion: revBB, Aug-2009; PackageReference: MSOP-MS8; PackageDescription: 8-Lead Plastic Micro Small Outline Package (MS) [MSOP]; Supplier 1: Digi-Key; Supplier Part Number 1: MCP1650RT-E/MS-ND; Supplier 2: Mouser; Supplier Part Number 2: 579-MCP1650RT-E/MS; Mounting Technology: Surface Mount; ComponentLink1Description: Manufacturer URL; ComponentLink1URL: http://www.microchip.com/; ComponentLink2Description: Datasheet; ComponentLink2URL: http://ww1.microchip.com/downloads/en/DeviceDoc/21876a.pdf; ComponentLink3Description: Package Specification; ComponentLink3URL: http://www.microchip.com/stellent/groups/techpub_sg/documents/packagingspec/en012702.pdf
footprint MSOP-MS8_N (TSOP, 8-Leads, Body 3x3mm, Pitch 0.65mm, IPC Medium Density)
footprint MSOP-MS8_L (TSOP, 8-Leads, Body 3x3mm, Pitch 0.65mm, IPC High Density)
footprint MSOP-MS8_M (TSOP, 8-Leads, Body 3x3mm, Pitch 0.65mm, IPC Low Density)
pins: 1 EXT (out), 2 GND (power), 3 CS (in), 4 FB (in), 5 ~{SHDN} (in), 6 NC, 7 NC, 8 VIN (power)

## MCP1650S-E/MS
designator U?
750 kHz Boost Controller, 2.55V, 8-Pin MSOP, Extended Temperature; Manufacturer: Microchip; PartNumber: MCP1650S-E/MS; DatasheetVersion: revA, Mar-2004; PackageVersion: revBB, Aug-2009; PackageReference: MSOP-MS8; PackageDescription: 8-Lead Plastic Micro Small Outline Package (MS) [MSOP]; Supplier 1: Digi-Key; Supplier Part Number 1: MCP1650S-E/MS-ND; Supplier 2: Farnell; Supplier Part Number 2: 1863920; Supplier 3: Newark; Supplier Part Number 3: 96K3707; Supplier 4: Mouser; Supplier Part Number 4: 579-MCP1650S-E/MS; Mounting Technology: Surface Mount; ComponentLink1Description: Manufacturer URL; ComponentLink1URL: http://www.microchip.com/; ComponentLink2Description: Datasheet; ComponentLink2URL: http://ww1.microchip.com/downloads/en/DeviceDoc/21876a.pdf; ComponentLink3Description: Package Specification; ComponentLink3URL: http://www.microchip.com/stellent/groups/techpub_sg/documents/packagingspec/en012702.pdf
footprint MSOP-MS8_N (TSOP, 8-Leads, Body 3x3mm, Pitch 0.65mm, IPC Medium Density)
footprint MSOP-MS8_L (TSOP, 8-Leads, Body 3x3mm, Pitch 0.65mm, IPC High Density)
footprint MSOP-MS8_M (TSOP, 8-Leads, Body 3x3mm, Pitch 0.65mm, IPC Low Density)
pins: 1 EXT (out), 2 GND (power), 3 CS (in), 4 FB (in), 5 ~{SHDN} (in), 6 NC, 7 NC, 8 VIN (power)

## MCP1650ST-E/MS
designator U?
750 kHz Boost Controller, 2.55V, 8-Pin MSOP, Extended Temperature, Tape and Reel; Manufacturer: Microchip; PartNumber: MCP1650ST-E/MS; DatasheetVersion: revA, Mar-2004; PackageVersion: revBB, Aug-2009; PackageReference: MSOP-MS8; PackageDescription: 8-Lead Plastic Micro Small Outline Package (MS) [MSOP]; Supplier 1: Digi-Key; Supplier Part Number 1: MCP1650ST-E/MS-ND; Supplier 2: Mouser; Supplier Part Number 2: 579-MCP1650ST-E/MS; Mounting Technology: Surface Mount; ComponentLink1Description: Manufacturer URL; ComponentLink1URL: http://www.microchip.com/; ComponentLink2Description: Datasheet; ComponentLink2URL: http://ww1.microchip.com/downloads/en/DeviceDoc/21876a.pdf; ComponentLink3Description: Package Specification; ComponentLink3URL: http://www.microchip.com/stellent/groups/techpub_sg/documents/packagingspec/en012702.pdf
footprint MSOP-MS8_N (TSOP, 8-Leads, Body 3x3mm, Pitch 0.65mm, IPC Medium Density)
footprint MSOP-MS8_L (TSOP, 8-Leads, Body 3x3mm, Pitch 0.65mm, IPC High Density)
footprint MSOP-MS8_M (TSOP, 8-Leads, Body 3x3mm, Pitch 0.65mm, IPC Low Density)
pins: 1 EXT (out), 2 GND (power), 3 CS (in), 4 FB (in), 5 ~{SHDN} (in), 6 NC, 7 NC, 8 VIN (power)

## MCP1651R-E/MS
designator U?
750 kHz Boost Controller, Low Battery Detection, 2.0V, 8-Pin MSOP, Extended Temperature; Manufacturer: Microchip; PartNumber: MCP1651R-E/MS; DatasheetVersion: revA, Mar-2004; PackageVersion: revBB, Aug-2009; PackageReference: MSOP-MS8; PackageDescription: 8-Lead Plastic Micro Small Outline Package (MS) [MSOP]; Supplier 1: Digi-Key; Supplier Part Number 1: MCP1651R-E/MS-ND; Supplier 2: Farnell; Supplier Part Number 2: 1439377; Supplier 3: Newark; Supplier Part Number 3: 96K3708; Supplier 4: Mouser; Supplier Part Number 4: 579-MCP1651R-E/MS; Mounting Technology: Surface Mount; ComponentLink1Description: Manufacturer URL; ComponentLink1URL: http://www.microchip.com/; ComponentLink2Description: Datasheet; ComponentLink2URL: http://ww1.microchip.com/downloads/en/DeviceDoc/21876a.pdf; ComponentLink3Description: Package Specification; ComponentLink3URL: http://www.microchip.com/stellent/groups/techpub_sg/documents/packagingspec/en012702.pdf
footprint MSOP-MS8_N (TSOP, 8-Leads, Body 3x3mm, Pitch 0.65mm, IPC Medium Density)
footprint MSOP-MS8_L (TSOP, 8-Leads, Body 3x3mm, Pitch 0.65mm, IPC High Density)
footprint MSOP-MS8_M (TSOP, 8-Leads, Body 3x3mm, Pitch 0.65mm, IPC Low Density)
pins: 1 EXT (out), 2 GND (power), 3 CS (in), 4 FB (in), 5 ~{SHDN} (in), 6 LBI (in), 7 ~{LBO} (oc), 8 VIN (power)

## MCP1651RT-E/MS
designator U?
750 kHz Boost Controller, Low Battery Detection, 2.0V, 8-Pin MSOP, Extended Temperature, Tape and Reel; Manufacturer: Microchip; PartNumber: MCP1651RT-E/MS; DatasheetVersion: revA, Mar-2004; PackageVersion: revBB, Aug-2009; PackageReference: MSOP-MS8; PackageDescription: 8-Lead Plastic Micro Small Outline Package (MS) [MSOP]; Supplier 1: Digi-Key; Supplier Part Number 1: MCP1651RT-E/MS-ND; Supplier 2: Mouser; Supplier Part Number 2: 579-MCP1651RT-E/MS; Mounting Technology: Surface Mount; ComponentLink1Description: Manufacturer URL; ComponentLink1URL: http://www.microchip.com/; ComponentLink2Description: Datasheet; ComponentLink2URL: http://ww1.microchip.com/downloads/en/DeviceDoc/21876a.pdf; ComponentLink3Description: Package Specification; ComponentLink3URL: http://www.microchip.com/stellent/groups/techpub_sg/documents/packagingspec/en012702.pdf
footprint MSOP-MS8_N (TSOP, 8-Leads, Body 3x3mm, Pitch 0.65mm, IPC Medium Density)
footprint MSOP-MS8_L (TSOP, 8-Leads, Body 3x3mm, Pitch 0.65mm, IPC High Density)
footprint MSOP-MS8_M (TSOP, 8-Leads, Body 3x3mm, Pitch 0.65mm, IPC Low Density)
pins: 1 EXT (out), 2 GND (power), 3 CS (in), 4 FB (in), 5 ~{SHDN} (in), 6 LBI (in), 7 ~{LBO} (oc), 8 VIN (power)

## MCP1651S-E/MS
designator U?
750 kHz Boost Controller, Low Battery Detection, 2.55V, 8-Pin MSOP, Extended Temperature; Manufacturer: Microchip; PartNumber: MCP1651S-E/MS; DatasheetVersion: revA, Mar-2004; PackageVersion: revBB, Aug-2009; PackageReference: MSOP-MS8; PackageDescription: 8-Lead Plastic Micro Small Outline Package (MS) [MSOP]; Supplier 1: Digi-Key; Supplier Part Number 1: MCP1651S-E/MS-ND; Supplier 2: Farnell; Supplier Part Number 2: 1863921; Supplier 3: Newark; Supplier Part Number 3: 96K3709; Supplier 4: Mouser; Supplier Part Number 4: 579-MCP1651S-E/MS; Mounting Technology: Surface Mount; ComponentLink1Description: Manufacturer URL; ComponentLink1URL: http://www.microchip.com/; ComponentLink2Description: Datasheet; ComponentLink2URL: http://ww1.microchip.com/downloads/en/DeviceDoc/21876a.pdf; ComponentLink3Description: Package Specification; ComponentLink3URL: http://www.microchip.com/stellent/groups/techpub_sg/documents/packagingspec/en012702.pdf
footprint MSOP-MS8_N (TSOP, 8-Leads, Body 3x3mm, Pitch 0.65mm, IPC Medium Density)
footprint MSOP-MS8_L (TSOP, 8-Leads, Body 3x3mm, Pitch 0.65mm, IPC High Density)
footprint MSOP-MS8_M (TSOP, 8-Leads, Body 3x3mm, Pitch 0.65mm, IPC Low Density)
pins: 1 EXT (out), 2 GND (power), 3 CS (in), 4 FB (in), 5 ~{SHDN} (in), 6 LBI (in), 7 ~{LBO} (oc), 8 VIN (power)